# Altium schematic symbol library XMAS_2023_schlib.SchLib: 36 symbols
Pins are listed as number, name and electrical type; pins without a type are passive.

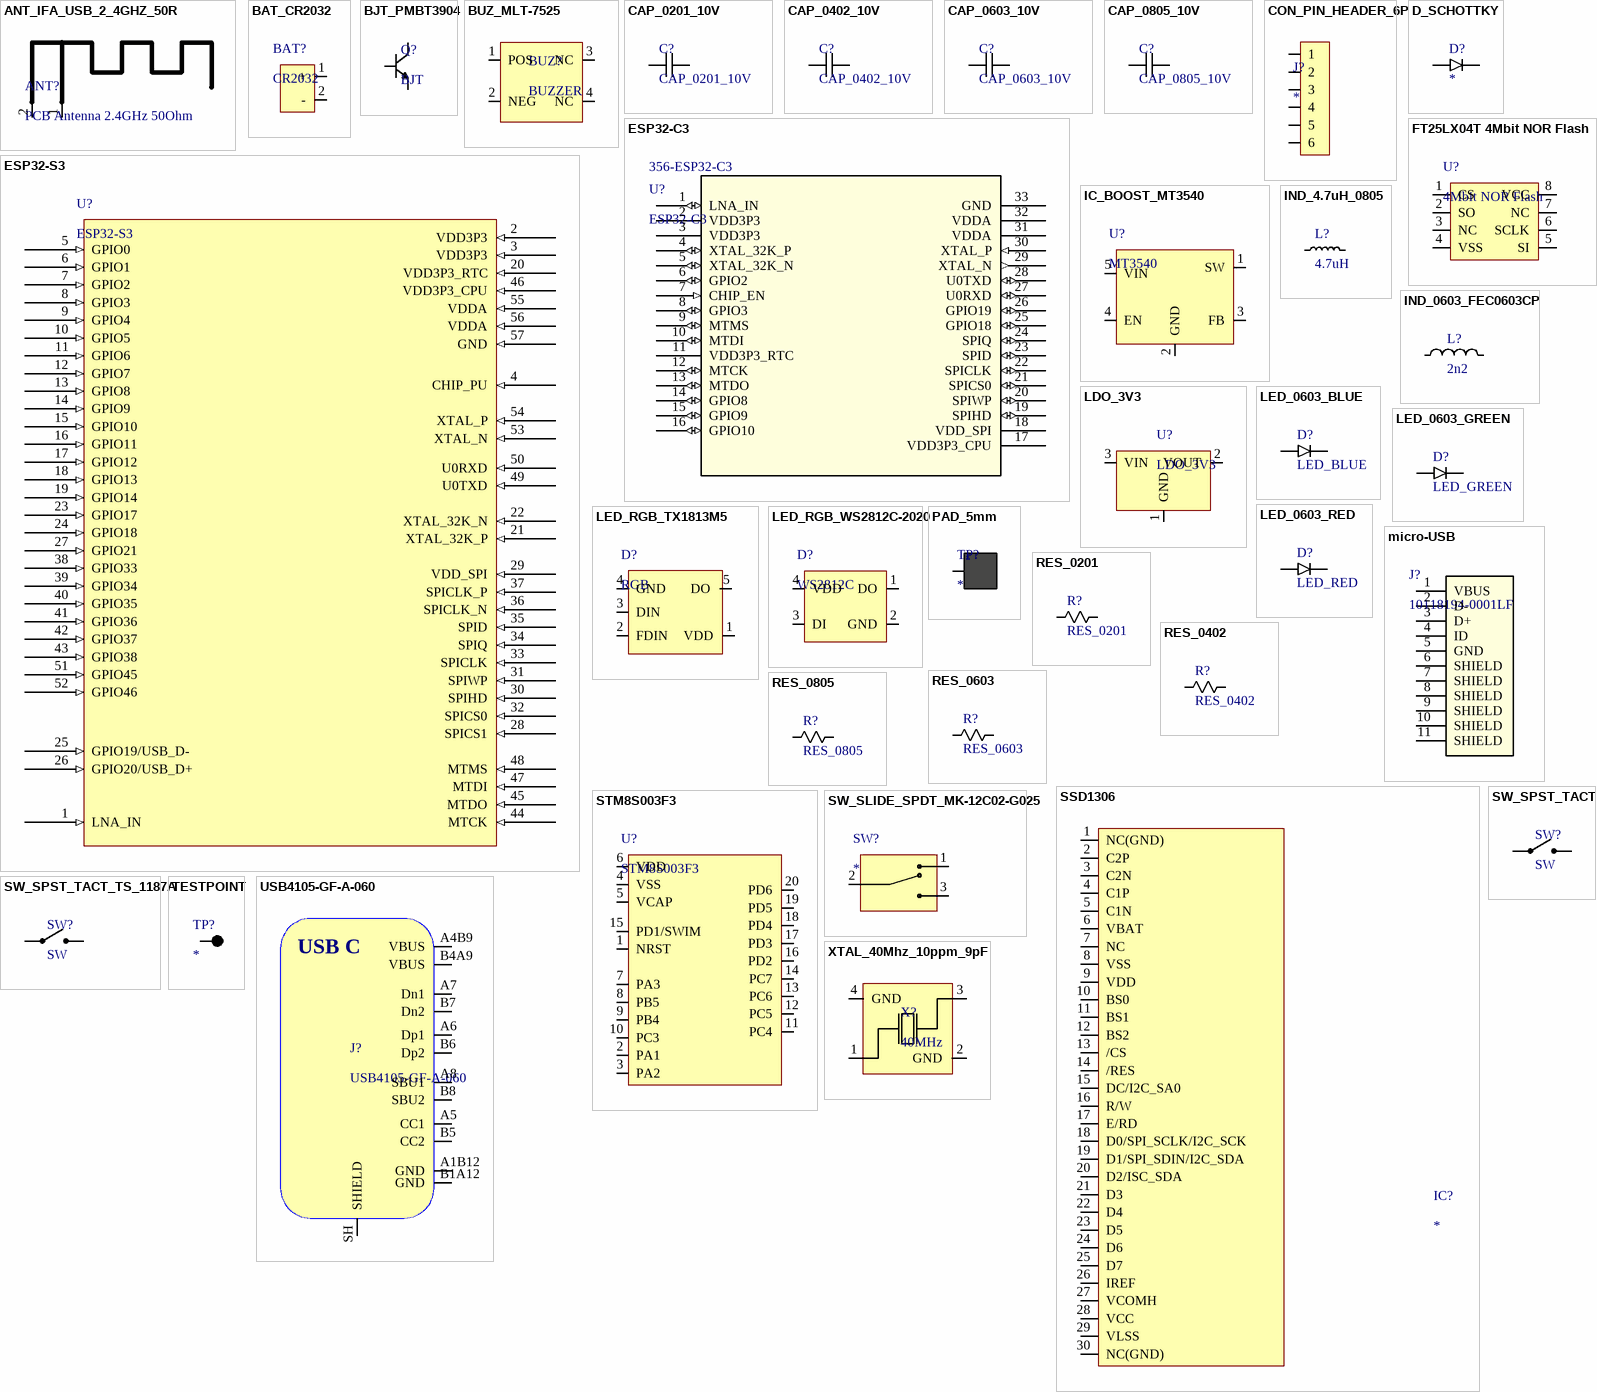
[diagram p0: symbols ANT_IFA_USB_2_4GHZ_50R to XTAL_40Mhz_10ppm_9pF]

## ANT_IFA_USB_2_4GHZ_50R
designator ANT?, comment PCB Antenna 2.4GHz 50Ohm  (no BOM)
Inverted F 2.4GHz ISM PCB Antenna 50 Ohm; ComponentLink1Description: Datasheet; ComponentLink1URL: https://www.ti.com/lit/an/swra117d/swra117d.pdf
footprint ANT_IFA_USB_2_4GHZ_50R
pins: 1 RF, 2 GND

## BAT_CR2032
designator BAT?, comment CR2032
Manufacturer: MYOUNG; Manufacturer Part Number: MY-2032-12; JLCPCB Part Number: C964833
footprint BAT_2032 (MY-2032-12 2032 battery holder)
pins: 1 +, 2 -

## BJT_PMBT3904
designator Q?, comment BJT
40V 250mW 100@10mA,1V 200mA NPN SOT-23(TO-236) Bipolar Transistors - BJT ROHS; Manufacturer: Nexperia; Manufacturer Part Number: PMBT3904,215; JLCPCB Part Number: C8667
footprint SOT-23
pins: 1 B, 2 E, 3 C

## BUZ_MLT-7525
designator BUZ?, comment BUZZER
Externally Driven 80dB@5V,10cm Magnetic 3.6V 2700Hz SMD,7.5x7.5mm Buzzers ROHS; Manufacturer: Jiangsu Huaneng Elec; Manufacturer Part Number: MLT-7525; JLCPCB Part Number: C95299
footprint BUZ_MLT-7525 (MLT-7525 buzzer)
pins: 1 POS, 2 NEG, 3 NC, 4 NC

## CAP_0201_10V
designator C?
footprint CAP_0201_NOM
pins: 1, 2

## CAP_0402_10V
designator C?
footprint CAP_0402_NOM
pins: 1, 2

## CAP_0603_10V
designator C?
footprint CAP_0603_NOM
pins: 1, 2

## CAP_0805_10V
designator C?
footprint CAP_0805_NOM
pins: 1, 2

## CON_PIN_HEADER_6P
designator J?
6-pin header 2.54mm pitch male; Manufacturer: XFCN; Manufacturer Part Number: PZ254V-11-06P; JLCPCB Part Numer: C492405
footprint CON_6P_header (CON_6P_header male / 2.54mm pitch)
pins: 1  1, 2, 3, 4, 5, 6

## D_SCHOTTKY
designator D?
30V 500mV@200mA 200mA SOD-523 Schottky Barrier Diodes (SBD) ROHS; Manufacturer: onsemi; Manufacturer Part Number: RB521S30T1G; JLCPCB Part Number: C145179
footprint SOD-523
pins: 1 Cathode, 2 Anode

## ESP32-C3
designator U?  Supplier Part Number 1: 356-ESP32-C3
SMD IC ESP32-C3, SINGLE-CORE MCU; Mfr_Name: Espressif Systems; Copyright: Copyright (C) 2023 Ultra Librarian. All rights reserved.; Manufacturer_Part_Number: ESP32-C3; Digi-Key_Part_Number_1: 1904-ESP32-C3TR-ND; Digi-Key_Part_Number_2: 1904-ESP32-C3CT-ND; Digi-Key_Part_Number_3: 1904-ESP32-C3DKR-ND; RefDes: RefDes; Type: DEV; Supplier 1: Mouser; ComponentLink1Description: Datasheet; ComponentLink1URL: .\datasheets\esp32-c3_datasheet_en.pdf; ComponentLink2Description: Hardware design guide; ComponentLink2URL: .\datasheets\esp32-c3_hardware_design_guidelines_en.pdf
footprint QFN32_5X5_EXP
pins: 1 LNA_IN (io), 2 VDD3P3 (power), 3 VDD3P3 (power), 4 XTAL_32K_P (io), 5 XTAL_32K_N (io), 6 GPIO2 (io), 7 CHIP_EN (in), 8 GPIO3 (io), 9 MTMS (io), 10 MTDI (io), 11 VDD3P3_RTC (power), 12 MTCK (io), 13 MTDO (io), 14 GPIO8 (io), 15 GPIO9 (io), 16 GPIO10 (io), 17 VDD3P3_CPU (power), 18 VDD_SPI (power), 19 SPIHD (io), 20 SPIWP (io), 21 SPICS0 (io), 22 SPICLK (io), 23 SPID (io), 24 SPIQ (io), 25 GPIO18 (io), 26 GPIO19 (io), 27 U0RXD (io), 28 U0TXD (io), 29 XTAL_N (out), 30 XTAL_P (in), 31 VDDA (power), 32 VDDA (power), 33 GND

## ESP32-S3
designator U?
ESP32-S3 QFN-56-EP(7x7) RF Transceiver ICs ROHS; Manufacturer: Espressif Systems; Manufacturer Part Number: ESP32-S3; JLCPCB Part Number: C2913192
footprint STM32_S3
pins: 1 LNA_IN (in), 2 VDD3P3 (in), 3 VDD3P3 (in), 4 CHIP_PU (in), 5 GPIO0 (in), 6 GPIO1 (in), 7 GPIO2 (in), 8 GPIO3 (in), 9 GPIO4 (in), 10 GPIO5 (in), 11 GPIO6 (in), 12 GPIO7 (in), 13 GPIO8 (in), 14 GPIO9 (in), 15 GPIO10 (in), 16 GPIO11 (in), 17 GPIO12 (in), 18 GPIO13 (in), 19 GPIO14 (in), 20 VDD3P3_RTC (in), 21 XTAL_32K_P (in), 22 XTAL_32K_N (in), 23 GPIO17 (in), 24 GPIO18 (in), 25 GPIO19/USB_D- (in), 26 GPIO20/USB_D+ (in), 27 GPIO21 (in), 28 SPICS1 (in), 29 VDD_SPI (in), 30 SPIHD (in), 31 SPIWP (in), 32 SPICS0 (in), 33 SPICLK (in), 34 SPIQ (in), 35 SPID (in), 36 SPICLK_N (in), 37 SPICLK_P (in), 38 GPIO33 (in), 39 GPIO34 (in), 40 GPIO35 (in), 41 GPIO36 (in), 42 GPIO37 (in), 43 GPIO38 (in), 44 MTCK (in), 45 MTDO (in), 46 VDD3P3_CPU (in), 47 MTDI (in), 48 MTMS (in), 49 U0TXD (in), 50 U0RXD (in), 51 GPIO45 (in), 52 GPIO46 (in), 53 XTAL_N (in), 54 XTAL_P (in), 55 VDDA (in), 56 VDDA (in), 57 GND (in)

## FT25LX04T 4Mbit NOR Flash
designator U?, comment 4Mbit NOR Flash
4Mbit SPI 50MHz TSSOP-8 NOR FLASH ROHS; Manufacturer: XTX; Manufacturer Part Number: FT25LX04T-RT; JLCPCB Part Number: C558853
footprint TSSOP-8
pins: 1 CS, 2 SO, 3 NC, 4 VSS, 5 SI, 6 SCLK, 7 NC, 8 VCC

## IC_BOOST_MT3540
designator U?, comment MT3540
boost converterType 28V 2.5V~5.5V 1.5A SOT-23-5 DC-DC Converters ROHS; Manufacturer: XI'AN Aerosemi Tech; Manufacturer Part Number: MT3540; JLCPCB Part Number: C181744
footprint SOT-23 - 5 (2)
pins: 1 SW, 2 GND, 3 FB, 4 EN, 5 VIN

## IND_4.7uH_0805
designator L?, comment 4.7uH
350mA 4.7uH ±20% 400mΩ 0805 Inductors (SMD) ROHS; Manufacturer: FH (Guangdong Fenghua Advanced Tech); Manufacturer Part Number: CMP201209UD4R7MT; JLCPCB Part Number: C139243
footprint CAP_0805_NOM
pins: 1, 2

## IND_0603_FEC0603CP
designator L?, comment 2n2
700mA 2.2nH ±2% 5mΩ 0603 Inductors (SMD) ROHS; Manufacturer: PSA(Prosperity Dielectrics); Manufacturer Part Number: FEC0603CP-2N2G-LRH; JLCPCB Part Number: C346308
footprint IND_0603
pins: 1, 2

## LDO_3V3
designator U?
500mA null 3.3V positive 7V SOT-89 Linear Voltage Regulators (LDO) ROHS; Manufacturer: HXY MOSFET; Manufacturer Part Number: XC6206P332PR; JLCPCB Part Number: C5451666
footprint SOT-89
pins: 1 GND, 2 VOUT, 3 VIN

## LED_0603_BLUE
designator D?, comment LED_BLUE
Blue 0603 Light Emitting Diodes (LED) ROHS; Manufacturer: Hubei KENTO Elec; Manufacturer Part Number: KT-0603B; JLCPCB Part Number: C2288
footprint LED_0603_BLUE
pins: A Anode, K Cathode

## LED_0603_GREEN
designator D?, comment LED_GREEN
Green 0603 Light Emitting Diodes (LED) ROHS; Manufacturer: Hubei KENTO Elec; Manufacturer Part Number: KT-0603G; JLCPCB Part Number: C12624
footprint LED_0603_GREEN
pins: A Anode, K Cathode

## LED_0603_RED
designator D?, comment LED_RED
Red 0603 Light Emitting Diodes (LED) ROHS; Manufacturer: Hubei KENTO Elec; Manufacturer Part Number: KT-0603R; JLCPCB Part Number: C2286
footprint LED_0603_RED
pins: A Anode, K Cathode

## LED_RGB_TX1813M5
designator D?, comment RGB
RGB SMD-5P,1.5x1.6mm Light Emitting Diodes (LED) ROHS; Manufacturer: TCWIN; Manufacturer Part Number: TX1813M5; JLCPCB Part Number: C5137307
footprint TX1813M5
pins: 1 VDD, 2 FDIN, 3 DIN, 4 GND, 5 DO

## LED_RGB_WS2812C-2020
designator D?, comment WS2812C
RGB SMD,2x2mm Light Emitting Diodes (LED) ROHS; Manufacturer: Worldsemi; Manufacturer Part Number: WS2812C-2020-V1; JLCPCB Part Number: C2976072
footprint LED_RGB_WS2812C-2020
pins: 1 DO, 2 GND, 3 DI, 4 VDD

## micro-USB
designator J?, comment 10118194-0001LF
USB 2.0 1 5 Female Micro-B SMD USB Connectors ROHS; Mfr_Name: Amphenol ICC; Copyright: Copyright (C) 2023 Ultra Librarian. All rights reserved.; Manufacturer_Part_Number: 10118194-0001LF; Digi-Key_Part_Number_1: 609-4618-2-ND; Digi-Key_Part_Number_2: 609-4618-1-ND; Digi-Key_Part_Number_3: 609-4618-6-ND; Digi-Key_Part_Number_4: 609-4618-2-NDL; RefDes: RefDes; Type: DEV
footprint CONN_10118194-0001LF_AMP
pins: 1 VBUS, 2 D-, 3 D+, 4 ID, 5 GND, 6 SHIELD, 7 SHIELD, 8 SHIELD, 9 SHIELD, 10 SHIELD, 11 SHIELD

## PAD_5mm
designator TP?
5mm touch pad
footprint PAD_5x5mm
pins: 1  1

## RES_0201
designator R?
footprint RES_0201_nom
pins: 1, 2

## RES_0402
designator R?
footprint RES_0402_nom
pins: 1, 2

## RES_0603
designator R?
footprint RES_0603_nom
pins: 1, 2

## RES_0805
designator R?
footprint RES_0805_nom
pins: 1, 2

## SSD1306
designator IC?
UG-2864HSWEG01; ComponentLink1Description: Datasheet; ComponentLink1URL: .\datasheets\UG-2864HSWEG01.pdf; ComponentLink2Description: SSD1306 datasheet; ComponentLink2URL: .\datasheets\SSD1306.pdf
footprint SSD1306
pins: 1 NC(GND), 2 C2P, 3 C2N, 4 C1P, 5 C1N, 6 VBAT, 7 NC, 8 VSS, 9 VDD, 10 BS0, 11 BS1, 12 BS2, 13 /CS, 14 /RES, 15 DC/I2C_SA0, 16 R/W, 17 E/RD, 18 D0/SPI_SCLK/I2C_SCK, 19 D1/SPI_SDIN/I2C_SDA, 20 D2/ISC_SDA, 21 D3, 22 D4, 23 D5, 24 D6, 25 D7, 26 IREF, 27 VCOMH, 28 VCC, 29 VLSS, 30 NC(GND)

## STM8S003F3
designator U?
8KB 2.95V~5.5V STM8 1KB 16MHz FLASH 16 UFQFPN-20(3x3) Microcontroller Units (MCUs/MPUs/SOCs) ROHS; Manufacturer: STMicroelectronics; Manufacturer Part Number: STM8S003F3U6TR; JLCPCB Part Number: C35556
footprint UFQFPN20
pins: 1 NRST, 2 PA1, 3 PA2, 4 VSS, 5 VCAP, 6 VDD, 7 PA3, 8 PB5, 9 PB4, 10 PC3, 11 PC4, 12 PC5, 13 PC6, 14 PC7, 15 PD1/SWIM, 16 PD2, 17 PD3, 18 PD4, 19 PD5, 20 PD6

## SW_SLIDE_SPDT_MK-12C02-G025
designator SW?
Manufacturer: G-Switch; Manufacturer Part Number: MK-12C02-G025; JLCPCB Part Number: C778186
footprint SW_SLIDE_SPDT_MK-12C02-G025
pins: 1 A, 2 COM, 3 B

## SW_SPST_TACT
designator SW?, comment SW
NO 50mA 100MΩ 100000 Times 12V 160gf@±50gf Brick nogging SPST SMD Tactile Switches ROHS; Manufacturer: XUNPU; Manufacturer Part Number: TS-1088-AR02016; JLCPCB Part Number: C720477
footprint SW_SPST_TACT
pins: 1, 2

## SW_SPST_TACT_TS_1187A
designator SW?, comment SW
No NO 50mA 100000 Times 160gf 12V Brick nogging SPST SMD Tactile Switches ROHS; Manufacturer: XKB Connectivity; Manufacturer Part Number: TS-1187A-B-A-B; JLCPCB Part Number: C318884
footprint SW_TACT_SPST_TS-1187A (TS-1187A-B-A-B)
pins: 1, 2

## TESTPOINT
designator TP?
1.2mm Test point
footprint testpoint (Reference point)
pins: 1

## USB4105-GF-A-060
designator J?
USB Connector Type C SMT 12 Pin; Manufacturer: GCT; Manufacturer Part Number: USB4105-GF-A-060; Distributor Link: https://eu.mouser.com/ProductDetail/GCT/USB4105-GF-A-060?qs=QNEnbhJQKvY2mocwNJzgfA%3D%3D
footprint USB4105-GF-A-060
pins: A1B12 GND, A4B9 VBUS, A5 CC1, A6 Dp1, A7 Dn1, A8 SBU1, B1A12 GND, B4A9 VBUS, B5 CC2, B6 Dp2, B7 Dn2, B8 SBU2, SH SHIELD
text: USB C

## XTAL_40Mhz_10ppm_9pF
designator X?, comment 40MHz
40MHz 9pF ±10ppm SMD2520-4P Crystals ROHS; Manufacturer: SJK(SHENZHEN CRYSTAL TECH); Manufacturer Part Number: 7E40000E09UCG; JLCPCB Part Number: C557159
footprint SMD2520-4P
pins: 1 XTAL_P, 2 GND, 3 XTAL_N, 4 GND